# Altium schematic symbol library TS5A3166.Schlib: 1 symbol
Pins are listed as number, name and electrical type; pins without a type are passive.

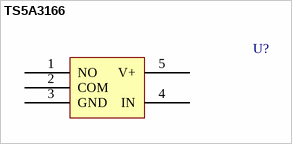
[diagram p0: symbol TS5A3166]

## TS5A3166
designator U?  (value not drawn)
Analog Switch 1-Ohm; Manufacturer: Texas Instruments; Manufacturer P/N: TS5A3166DCKR; CWM P/N: ????-TI-TS5A3166DCKR; HelpURL: http://www.ti.com/lit/ds/symlink/ts5a3166.pdf; Package: SC-70-5; Supplier 1: Digi-Key; Supplier Part Number 1: 296-17741-1-ND; Type: Analog Switch; Value: TS5A3166
pins: 1 NO, 2 COM, 3 GND (power), 4 IN, 5 V+